# EAGLE library part BUTTON-TL1265 (library MyComponents)
Illuminated button
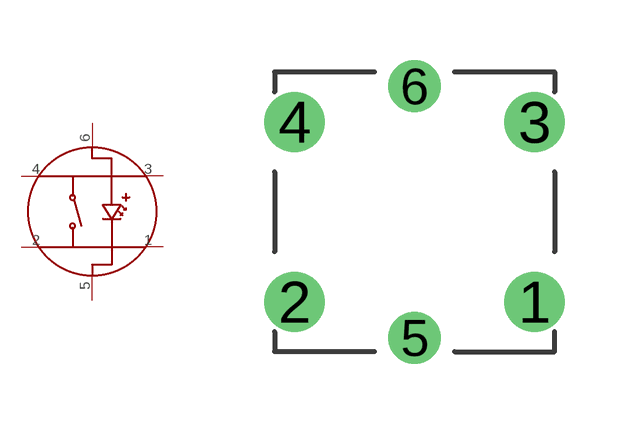
[diagram p28: symbol with the pads of BUTTON-TL1265; footprint BUTTON-TL1265]

Designator prefix BTN

## BUTTON-TL1265 (MOUSER: 612-TL1265GQSCLR)  [BUTTON-TL1265]
1  1
2  2
3  3
4  4
5  5
6  6

## Footprint BUTTON-TL1265 (pad centres in mm)
drill 1: 1 3,-2.25; 2 -3,-2.25; 3 3,2.25; 4 -3,2.25
drill 0.8: 5 0,-3.15; 6 0,3.15